# EAGLE library part RFDUINO_CASTELLATED (library AKA_test)
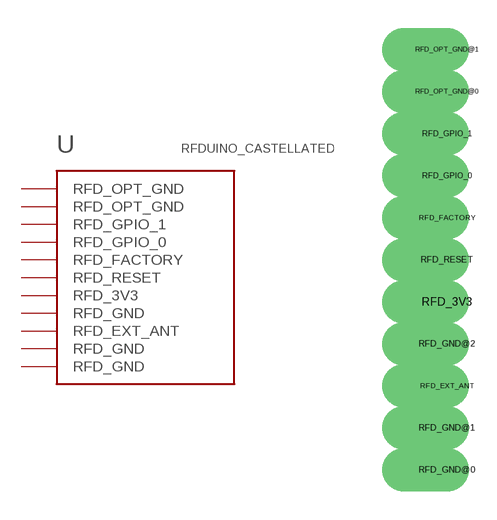
[diagram p2: symbol with the pads of RFDUINO_CASTELLATED_11; footprint RFDUINO_CASTELLATED_11]

Designator prefix -

## RFDUINO_CASTELLATED  [RFDUINO_CASTELLATED_11]
RFD_3V3  RFD_3V3  pwr
RFD_EXT_ANT  RFD_EXT_ANT  nc
RFD_FACTORY  RFD_FACTORY  nc
RFD_GND@0  RFD_GND  pwr
RFD_GND@1  RFD_GND  pwr
RFD_GND@2  RFD_GND  pwr
RFD_GPIO_0  RFD_GPIO_0
RFD_GPIO_1  RFD_GPIO_1
RFD_OPT_GND@0  RFD_OPT_GND  nc
RFD_OPT_GND@1  RFD_OPT_GND  nc
RFD_RESET  RFD_RESET  in

## Footprint RFDUINO_CASTELLATED_11 (pad centres in mm)
drill 0.8 pad 0.406 offset: RFD_3V3 0,5.08; RFD_EXT_ANT 0,2.54; RFD_FACTORY 0,7.62; RFD_GND@0 0,0; RFD_GND@1 0,1.27; RFD_GND@2 0,3.81; RFD_GPIO_0 0,8.89; RFD_GPIO_1 0,10.16; RFD_OPT_GND@0 0,11.43; RFD_OPT_GND@1 0,12.7; RFD_RESET 0,6.35